# Altium schematic symbol library LREG_3T_8pin.SchLib: 1 symbol
Pins are listed as number, name and electrical type; pins without a type are passive.

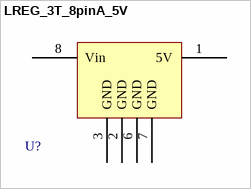
[diagram p0: symbol LREG_3T_8pinA_5V]

## LREG_3T_8pinA_5V
designator U?  (value not drawn)
pins: 1 5V (power), 2 GND, 3 GND, 6 GND, 7 GND, 8 Vin (power)